# Altium schematic symbol library BTS3134N.SchLib: 1 symbol
Pins are listed as number, name and electrical type; pins without a type are passive.

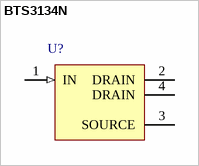
[diagram p0: symbol BTS3134N]

## BTS3134N
designator U?
Smart Low-Side Power Switch HITFET, 42 V VDS, 3 A ID, -40 to 150 degC, PG-SOT223 (SC-73), Reel, Green; Manufacturer: Infineon; PartNumber: BTS3134N; Channels: 1; Green: TRUE; ID: 3 A; ID(lim) (min): 18 A; Ptot (max): 43 W; RDS (on)(max): 50 mOhm; ton (max): 100 us; VDS (max): 42 V; DatasheetVersion: Rev. 1.3; PackageVersion: Apr-08; PackageReference: PG-SOT223 (SC-73); PackageDescription: 4-Pin Small Outline Transistor Package, 6.5 x 3.5 mm Body, 2.3 mm Pitch; Supplier 1: Digi-Key; Supplier Part Number 1: BTS3134NTR-ND; Supplier 2: Digi-Key; Supplier Part Number 2: BTS3134NCT-ND; Supplier 3: Digi-Key; Supplier Part Number 3: BTS3134NDKR-ND; Supplier 4: Farnell; Supplier Part Number 4: 2215491; Supplier 5: Newark; Supplier Part Number 5: 47W3383; Supplier 6: Mouser; Supplier Part Number 6: 726-BTS3134N; Group: HITFET; Halogen-free: FALSE; ID(nom): 3 A; Packing: Reel; toff (max): 100 us; Mounting Technology: Surface Mount; ComponentLink1Description: Manufacturer URL; ComponentLink1URL: http://www.infineon.com/; ComponentLink2Description: Datasheet; ComponentLink2URL: http://www.infineon.com/dgdl/BTS3134N_DS_13.pdf?folderId=db3a3043163797a6011667aa084c0e01&fileId=db3a3043271faefd01274cf69aba5d29&location=en.Products.Automotive_ICs.Smart_High-_and_Low-Side_Switches.HITFET___TEMPFET__-_Smart_Low-Side_Switches.DATASHEET.BTS3134N_DS_13.pdf; ComponentLink3Description: Package Specification; ComponentLink3URL: http://www.infineon.com/dgdl/SOT223-Package_Overview.pdf?folderId=db3a30431936bc4b0119530470b03c3d&fileId=db3a30431936bc4b0119531d40b93c5c
footprint INF-PG-SOT223_SC-73_N (SOT223, 4-Leads, Body 6.5x3.5mm, Pitch 2.3mm, IPC Medium Density)
footprint INF-PG-SOT223_SC-73_L (SOT223, 4-Leads, Body 6.5x3.5mm, Pitch 2.3mm, IPC High Density)
footprint INF-PG-SOT223_SC-73_M (SOT223, 4-Leads, Body 6.5x3.5mm, Pitch 2.3mm, IPC Low Density)
pins: 1 IN (in), 2 DRAIN (power), 3 SOURCE (power), 4 DRAIN (power)